# Altium schematic symbol library Cap_Kemet_C0402C562K5RACAUTO_5.6nF.SchLib: 1 symbol
Pins are listed as number, name and electrical type; pins without a type are passive.

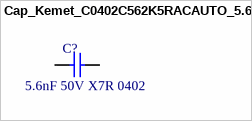
[diagram p0: symbol Cap_Kemet_C0402C562K5RACAUTO_5.6nF]

## Cap_Kemet_C0402C562K5RACAUTO_5.6nF
designator C?  Capacitance: 5.6nF 50V X7R 0402  (hidden comment: Cap_Kemet_C0402C562K5RACAUTO_5.6nF)
Multilayer Ceramic Capacitors MLCC - SMD/SMT 50V 5600pF X7R 0402 10% AEC-Q200; Supplier 1: Mouser; Supplier Part Number 1: 80-C0402C562K5RAUTO
footprint Cap_Kemet_C0402C562K5RACAUTO_5.6nF
pins: 1, 2